# EAGLE library part INA217 (library ryans-common-components)
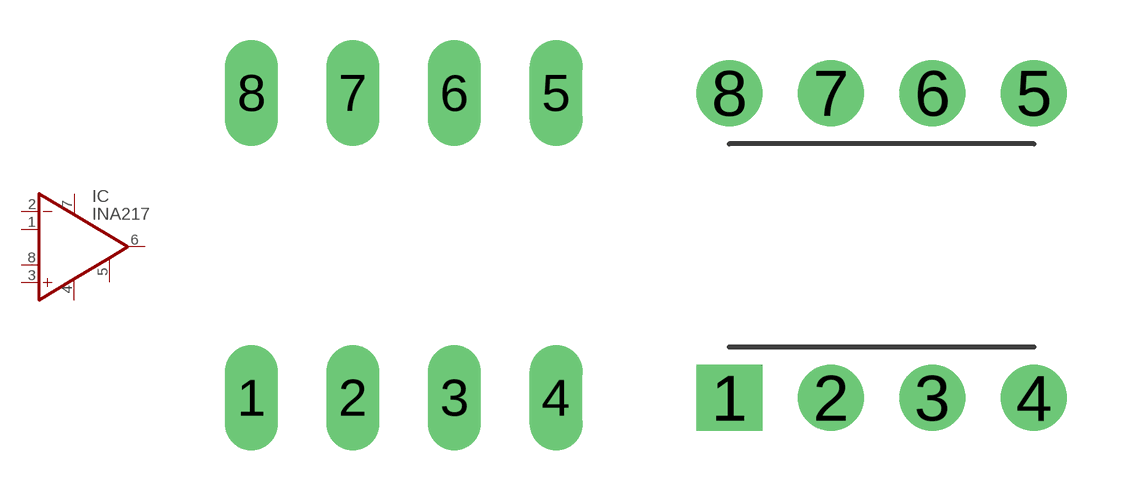
[diagram p2: symbol with the pads of DIL08-SOCKET; footprints DIL08-SOCKET, DIP8]

Designator prefix IC

## INA217-DIP8-SOCKET  [DIL08-SOCKET]
1  RG1
2  IN-
3  IN+
4  V-
5  REF
6  OUT
7  V+
8  RG2

## INA217-DIP8  [DIP8]
Pads as for DIL08-SOCKET

## Footprint DIL08-SOCKET (pad centres in mm)
drill 0.813 long: 1 -3.81,-3.81; 2 -1.27,-3.81; 3 1.27,-3.81; 4 3.81,-3.81; 5 3.81,3.81; 6 1.27,3.81; 7 -1.27,3.81; 8 -3.81,3.81

## Footprint DIP8 (pad centres in mm)
drill 0.8 pad 1.651 square: 1 -3.81,-3.81
drill 0.8 pad 1.651: 2 -1.27,-3.81; 3 1.27,-3.81; 4 3.81,-3.81; 5 3.81,3.81
drill 0.813 pad 1.651: 6 1.27,3.81; 7 -1.27,3.81; 8 -3.81,3.81